# EAGLE library part 2616-3111/020-000 (library con-wago_2616)
Stand: 01.01.2017. Die jeweils aktuellen Daten zu diesem Artikel finden Sie in unserem Produktkatalog, den Sie unter www.wago.com einsehen können. As of: 01/01/2017. Please find the newest data for this article in our product catalogue, which can be viewed under www.wago.com.
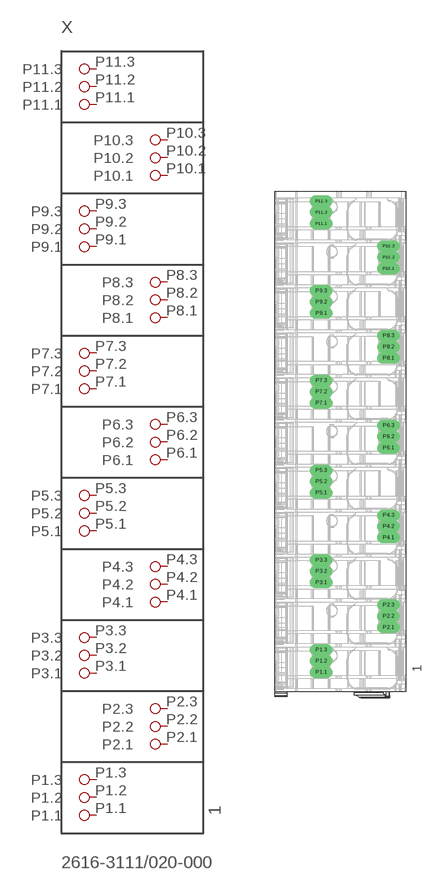
[diagram p13: symbol with the pads of P-2616-3111/020-000; footprint P-2616-3111/020-000]

Designator prefix X

## 2616-3111/020-000  [P-2616-3111/020-000]
P1.1  P1.1
P1.2  P1.2
P1.3  P1.3
P2.1  P2.1
P2.2  P2.2
P2.3  P2.3
P3.1  P3.1
P3.2  P3.2
P3.3  P3.3
P4.1  P4.1
P4.2  P4.2
P4.3  P4.3
P5.1  P5.1
P5.2  P5.2
P5.3  P5.3
P6.1  P6.1
P6.2  P6.2
P6.3  P6.3
P7.1  P7.1
P7.2  P7.2
P7.3  P7.3
P8.1  P8.1
P8.2  P8.2
P8.3  P8.3
P9.1  P9.1
P9.2  P9.2
P9.3  P9.3
P10.1  P10.1
P10.2  P10.2
P10.3  P10.3
P11.1  P11.1
P11.2  P11.2
P11.3  P11.3

## Footprint P-2616-3111/020-000 (pad centres in mm)
drill 1.7 long: P1.1 -4.235,-50.7; P1.2 -4.235,-48.2; P1.3 -4.235,-45.7; P2.1 10.765,-40.7; P2.2 10.765,-38.2; P2.3 10.765,-35.7; P3.1 -4.235,-30.7; P3.2 -4.235,-28.2; P3.3 -4.235,-25.7; P4.1 10.765,-20.7; P4.2 10.765,-18.2; P4.3 10.765,-15.7; P5.1 -4.235,-10.7; P5.2 -4.235,-8.2; P5.3 -4.235,-5.7; P6.1 10.765,-0.7; P6.2 10.765,1.8; P6.3 10.765,4.3; P7.1 -4.235,9.3; P7.2 -4.235,11.8; P7.3 -4.235,14.3; P8.1 10.765,19.3; P8.2 10.765,21.8; P8.3 10.765,24.3; P9.1 -4.235,29.3; P9.2 -4.235,31.8; P9.3 -4.235,34.3; P10.1 10.765,39.3; P10.2 10.765,41.8; P10.3 10.765,44.3; P11.1 -4.235,49.3; P11.2 -4.235,51.8; P11.3 -4.235,54.3